# Altium integrated library IRLML6402TRPBF.IntLib: 1 symbol
Pins are listed as number, name and electrical type; pins without a type are passive.

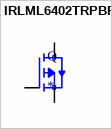
[diagram p0: symbol IRLML6402TRPBF]

## IRLML6402TRPBF
designator Q
RoHS Compliant | Industry-leading quality | Fast Switching | Low Profile _less than 1.1mm_ | P-Channel MOSFET | SOT-23 Footprint; MF: Infineon; MP: IRLML6402TRPBF; Package: SOT-23 Infineon; Value: *; Price: None; SnapEDA_Link: https://www.snapeda.com/parts/IRLML6402TRPBF/Infineon%20Technologies/view-part/523558/?ref=snap; Availability: Unavailable
footprint SOT95P237X112-3N
pins: 1 G, 2 S, 3 D